# Altium schematic symbol library LT8362.SchLib: 1 symbol
Pins are listed as number, name and electrical type; pins without a type are passive.

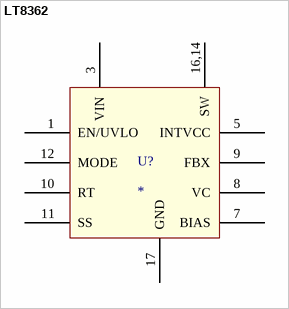
[diagram p0: symbol LT8362]

## LT8362
designator U?
pins: 1 EN/UVLO, 3 VIN, 5 INTVCC, 7 BIAS, 8 VC, 9 FBX, 10 RT, 11 SS, 12 MODE, 16,14 SW, 17 GND